# Altium schematic symbol library HW_ADHERENT_SYSCTRL_R1_L2.SCHLIB: 1987 symbols (part 20 of 38)
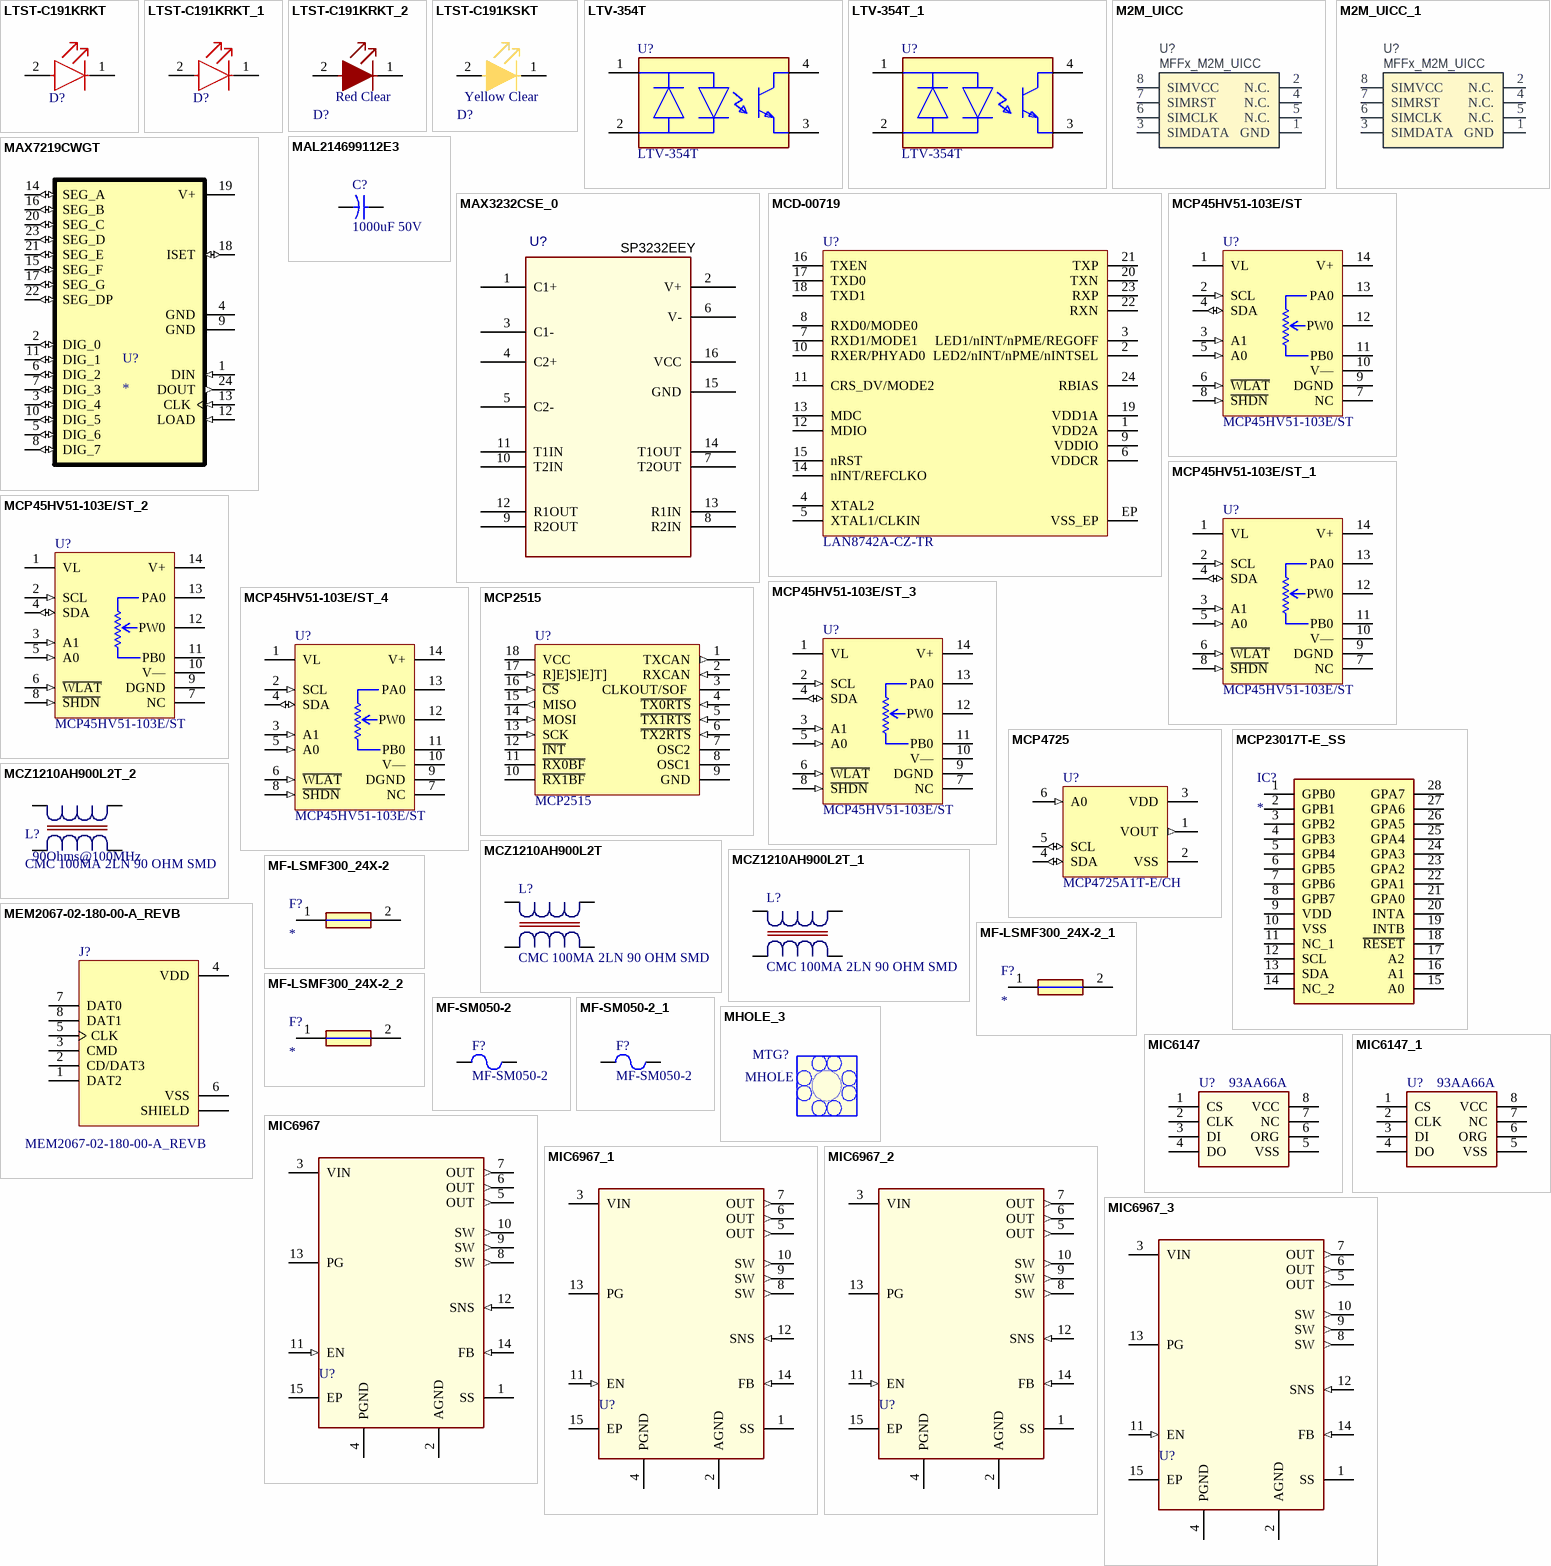
[diagram p81: symbols LTST-C191KRKT to MIC6967_3]

## MIC6147
designator U?, comment 93AA66A
MCHP MEMORY SERIAL EEPROM 4k Microwire 93AA66A-I/SN SOIC-8; Manufacturer: Microchip; Value: 93AA66A; Revision: B; Supplier Part Number: 579-93AA66A-I/SN; Manufacturer Part Number: 93AA66A-I/SN
footprint SOIC-8 150mil (Footprint not found)
pins: 1 CS, 2 CLK, 3 DI, 4 DO, 5 VSS, 6 ORG, 7 NC, 8 VCC

## MIC6147_1
designator U?, comment 93AA66A
MCHP MEMORY SERIAL EEPROM 4k Microwire 93AA66A-I/SN SOIC-8; Manufacturer: Microchip; Value: 93AA66A; Revision: B; Supplier Part Number: 579-93AA66A-I/SN; Manufacturer Part Number: 93AA66A-I/SN
footprint SOIC-8 150mil (Footprint not found)
pins: 1 CS, 2 CLK, 3 DI, 4 DO, 5 VSS, 6 ORG, 7 NC, 8 VCC

## MIC6967
designator U?, comment MIC33153 VFDFN-14  (value not drawn)
IC REG BUCK ADJ 1.2A SYNC 14MLF; Manufacturer: Microchip; Manufacturer Part Number: MIC33153YHJ-TR; ComponentLink1Description: https://datasheet.ciiva.com/2028/mic33153-2028656.pdf?src-supplier=Digi-Key; ComponentLink2URL: C:\ALTIUM_WORK\00001_MCHP-CDB\Datasheets\mic33153.pdf; ComponentLink2Description: Local Datasheet; ComponentLink3URL: C:\ALTIUM_WORK\00001_MCHP-CDB\Library\LibraryRefs\MIC33153 VFDFN-14.SchLib; ComponentLink3Description: Open Symbol; ComponentLink4URL: C:\ALTIUM_WORK\00001_MCHP-CDB\Library\Footprints\VFDFN-14_3X3.5_MIC33153.PcbLib; ComponentLink4Description: Open Footprint; ComponentLink5Description: https://datasheet.ciiva.com/2028/mic33153-2028657.pdf?src-supplier=Digi-Key; ComponentLink6Description: https://datasheet.ciiva.com/26845/getdatasheetpartid-734992-26845015.pdf?src-supplier=Verical; ComponentLink7Description: https://datasheet.ciiva.com/2028/mic33153-2028655.pdf?src-supplier=Digi-Key; Supplier 1: Digi-Key; Supplier Part Number 1: 576-3904-1-ND; RoHS: Yes; Category: Voltage Regulators - Switching; Stock 1: 6735; Pricing 1: 1=1,76000, 25=1,47000, 100=1,33000 (USD); ComponentLink1URL: https://datasheet.ciiva.com/2028/mic33153-2028656.pdf?src-supplier=Digi-Key; ComponentLink5URL: https://datasheet.ciiva.com/2028/mic33153-2028657.pdf?src-supplier=Digi-Key; ComponentLink6URL: https://datasheet.ciiva.com/26845/getdatasheetpartid-734992-26845015.pdf?src-supplier=Verical; ComponentLink7URL: https://datasheet.ciiva.com/2028/mic33153-2028655.pdf?src-supplier=Digi-Key
footprint MLF-14_3x3.5mm (14 Lead MLF Package 3x3.5mm Height 0.95mm)
pins: 1 SS (power), 2 AGND (power), 3 VIN (power), 4 PGND (power), 5 OUT (out), 6 OUT (out), 7 OUT (out), 8 SW (out), 9 SW (out), 10 SW (out), 11 EN (in), 12 SNS (in), 13 PG (oc), 14 FB (in), 15 EP (power)
1 alternate drawing of the same symbol

## MIC6967_1
designator U?, comment MIC33153 VFDFN-14  (value not drawn)
IC REG BUCK ADJ 1.2A SYNC 14MLF; Manufacturer: Microchip; Manufacturer Part Number: MIC33153YHJ-TR; ComponentLink1Description: https://datasheet.ciiva.com/2028/mic33153-2028656.pdf?src-supplier=Digi-Key; ComponentLink2URL: C:\ALTIUM_WORK\00001_MCHP-CDB\Datasheets\mic33153.pdf; ComponentLink2Description: Local Datasheet; ComponentLink3URL: C:\ALTIUM_WORK\00001_MCHP-CDB\Library\LibraryRefs\MIC33153 VFDFN-14.SchLib; ComponentLink3Description: Open Symbol; ComponentLink4URL: C:\ALTIUM_WORK\00001_MCHP-CDB\Library\Footprints\VFDFN-14_3X3.5_MIC33153.PcbLib; ComponentLink4Description: Open Footprint; ComponentLink5Description: https://datasheet.ciiva.com/2028/mic33153-2028657.pdf?src-supplier=Digi-Key; ComponentLink6Description: https://datasheet.ciiva.com/26845/getdatasheetpartid-734992-26845015.pdf?src-supplier=Verical; ComponentLink7Description: https://datasheet.ciiva.com/2028/mic33153-2028655.pdf?src-supplier=Digi-Key; Supplier 1: Digi-Key; Supplier Part Number 1: 576-3904-1-ND; RoHS: Yes; Category: Voltage Regulators - Switching; Stock 1: 6735; Pricing 1: 1=1,76000, 25=1,47000, 100=1,33000 (USD); ComponentLink1URL: https://datasheet.ciiva.com/2028/mic33153-2028656.pdf?src-supplier=Digi-Key; ComponentLink5URL: https://datasheet.ciiva.com/2028/mic33153-2028657.pdf?src-supplier=Digi-Key; ComponentLink6URL: https://datasheet.ciiva.com/26845/getdatasheetpartid-734992-26845015.pdf?src-supplier=Verical; ComponentLink7URL: https://datasheet.ciiva.com/2028/mic33153-2028655.pdf?src-supplier=Digi-Key
footprint MLF-14_3x3.5mm (14 Lead MLF Package 3x3.5mm Height 0.95mm)
pins: 1 SS (power), 2 AGND (power), 3 VIN (power), 4 PGND (power), 5 OUT (out), 6 OUT (out), 7 OUT (out), 8 SW (out), 9 SW (out), 10 SW (out), 11 EN (in), 12 SNS (in), 13 PG (oc), 14 FB (in), 15 EP (power)
1 alternate drawing of the same symbol

## MIC6967_2
designator U?, comment MIC33153 VFDFN-14  (value not drawn)
IC REG BUCK ADJ 1.2A SYNC 14MLF; Manufacturer: Microchip; Manufacturer Part Number: MIC33153YHJ-TR; ComponentLink1Description: https://datasheet.ciiva.com/2028/mic33153-2028656.pdf?src-supplier=Digi-Key; ComponentLink2URL: C:\ALTIUM_WORK\00001_MCHP-CDB\Datasheets\mic33153.pdf; ComponentLink2Description: Local Datasheet; ComponentLink3URL: C:\ALTIUM_WORK\00001_MCHP-CDB\Library\LibraryRefs\MIC33153 VFDFN-14.SchLib; ComponentLink3Description: Open Symbol; ComponentLink4URL: C:\ALTIUM_WORK\00001_MCHP-CDB\Library\Footprints\VFDFN-14_3X3.5_MIC33153.PcbLib; ComponentLink4Description: Open Footprint; ComponentLink5Description: https://datasheet.ciiva.com/2028/mic33153-2028657.pdf?src-supplier=Digi-Key; ComponentLink6Description: https://datasheet.ciiva.com/26845/getdatasheetpartid-734992-26845015.pdf?src-supplier=Verical; ComponentLink7Description: https://datasheet.ciiva.com/2028/mic33153-2028655.pdf?src-supplier=Digi-Key; Supplier 1: Digi-Key; Supplier Part Number 1: 576-3904-1-ND; RoHS: Yes; Category: Voltage Regulators - Switching; Stock 1: 6735; Pricing 1: 1=1,76000, 25=1,47000, 100=1,33000 (USD); ComponentLink1URL: https://datasheet.ciiva.com/2028/mic33153-2028656.pdf?src-supplier=Digi-Key; ComponentLink5URL: https://datasheet.ciiva.com/2028/mic33153-2028657.pdf?src-supplier=Digi-Key; ComponentLink6URL: https://datasheet.ciiva.com/26845/getdatasheetpartid-734992-26845015.pdf?src-supplier=Verical; ComponentLink7URL: https://datasheet.ciiva.com/2028/mic33153-2028655.pdf?src-supplier=Digi-Key
footprint MLF-14_3x3.5mm (14 Lead MLF Package 3x3.5mm Height 0.95mm)
pins: 1 SS (power), 2 AGND (power), 3 VIN (power), 4 PGND (power), 5 OUT (out), 6 OUT (out), 7 OUT (out), 8 SW (out), 9 SW (out), 10 SW (out), 11 EN (in), 12 SNS (in), 13 PG (oc), 14 FB (in), 15 EP (power)
1 alternate drawing of the same symbol

## MIC6967_3
designator U?, comment MIC33153 VFDFN-14  (value not drawn)
IC REG BUCK ADJ 1.2A SYNC 14MLF; Manufacturer: Microchip; Manufacturer Part Number: MIC33153YHJ-TR; ComponentLink1Description: https://datasheet.ciiva.com/2028/mic33153-2028656.pdf?src-supplier=Digi-Key; ComponentLink2URL: C:\ALTIUM_WORK\00001_MCHP-CDB\Datasheets\mic33153.pdf; ComponentLink2Description: Local Datasheet; ComponentLink3URL: C:\ALTIUM_WORK\00001_MCHP-CDB\Library\LibraryRefs\MIC33153 VFDFN-14.SchLib; ComponentLink3Description: Open Symbol; ComponentLink4URL: C:\ALTIUM_WORK\00001_MCHP-CDB\Library\Footprints\VFDFN-14_3X3.5_MIC33153.PcbLib; ComponentLink4Description: Open Footprint; ComponentLink5Description: https://datasheet.ciiva.com/2028/mic33153-2028657.pdf?src-supplier=Digi-Key; ComponentLink6Description: https://datasheet.ciiva.com/26845/getdatasheetpartid-734992-26845015.pdf?src-supplier=Verical; ComponentLink7Description: https://datasheet.ciiva.com/2028/mic33153-2028655.pdf?src-supplier=Digi-Key; Supplier 1: Digi-Key; Supplier Part Number 1: 576-3904-1-ND; RoHS: Yes; Category: Voltage Regulators - Switching; Stock 1: 6735; Pricing 1: 1=1,76000, 25=1,47000, 100=1,33000 (USD); ComponentLink1URL: https://datasheet.ciiva.com/2028/mic33153-2028656.pdf?src-supplier=Digi-Key; ComponentLink5URL: https://datasheet.ciiva.com/2028/mic33153-2028657.pdf?src-supplier=Digi-Key; ComponentLink6URL: https://datasheet.ciiva.com/26845/getdatasheetpartid-734992-26845015.pdf?src-supplier=Verical; ComponentLink7URL: https://datasheet.ciiva.com/2028/mic33153-2028655.pdf?src-supplier=Digi-Key
footprint MLF-14_3x3.5mm (14 Lead MLF Package 3x3.5mm Height 0.95mm)
pins: 1 SS (power), 2 AGND (power), 3 VIN (power), 4 PGND (power), 5 OUT (out), 6 OUT (out), 7 OUT (out), 8 SW (out), 9 SW (out), 10 SW (out), 11 EN (in), 12 SNS (in), 13 PG (oc), 14 FB (in), 15 EP (power)
1 alternate drawing of the same symbol

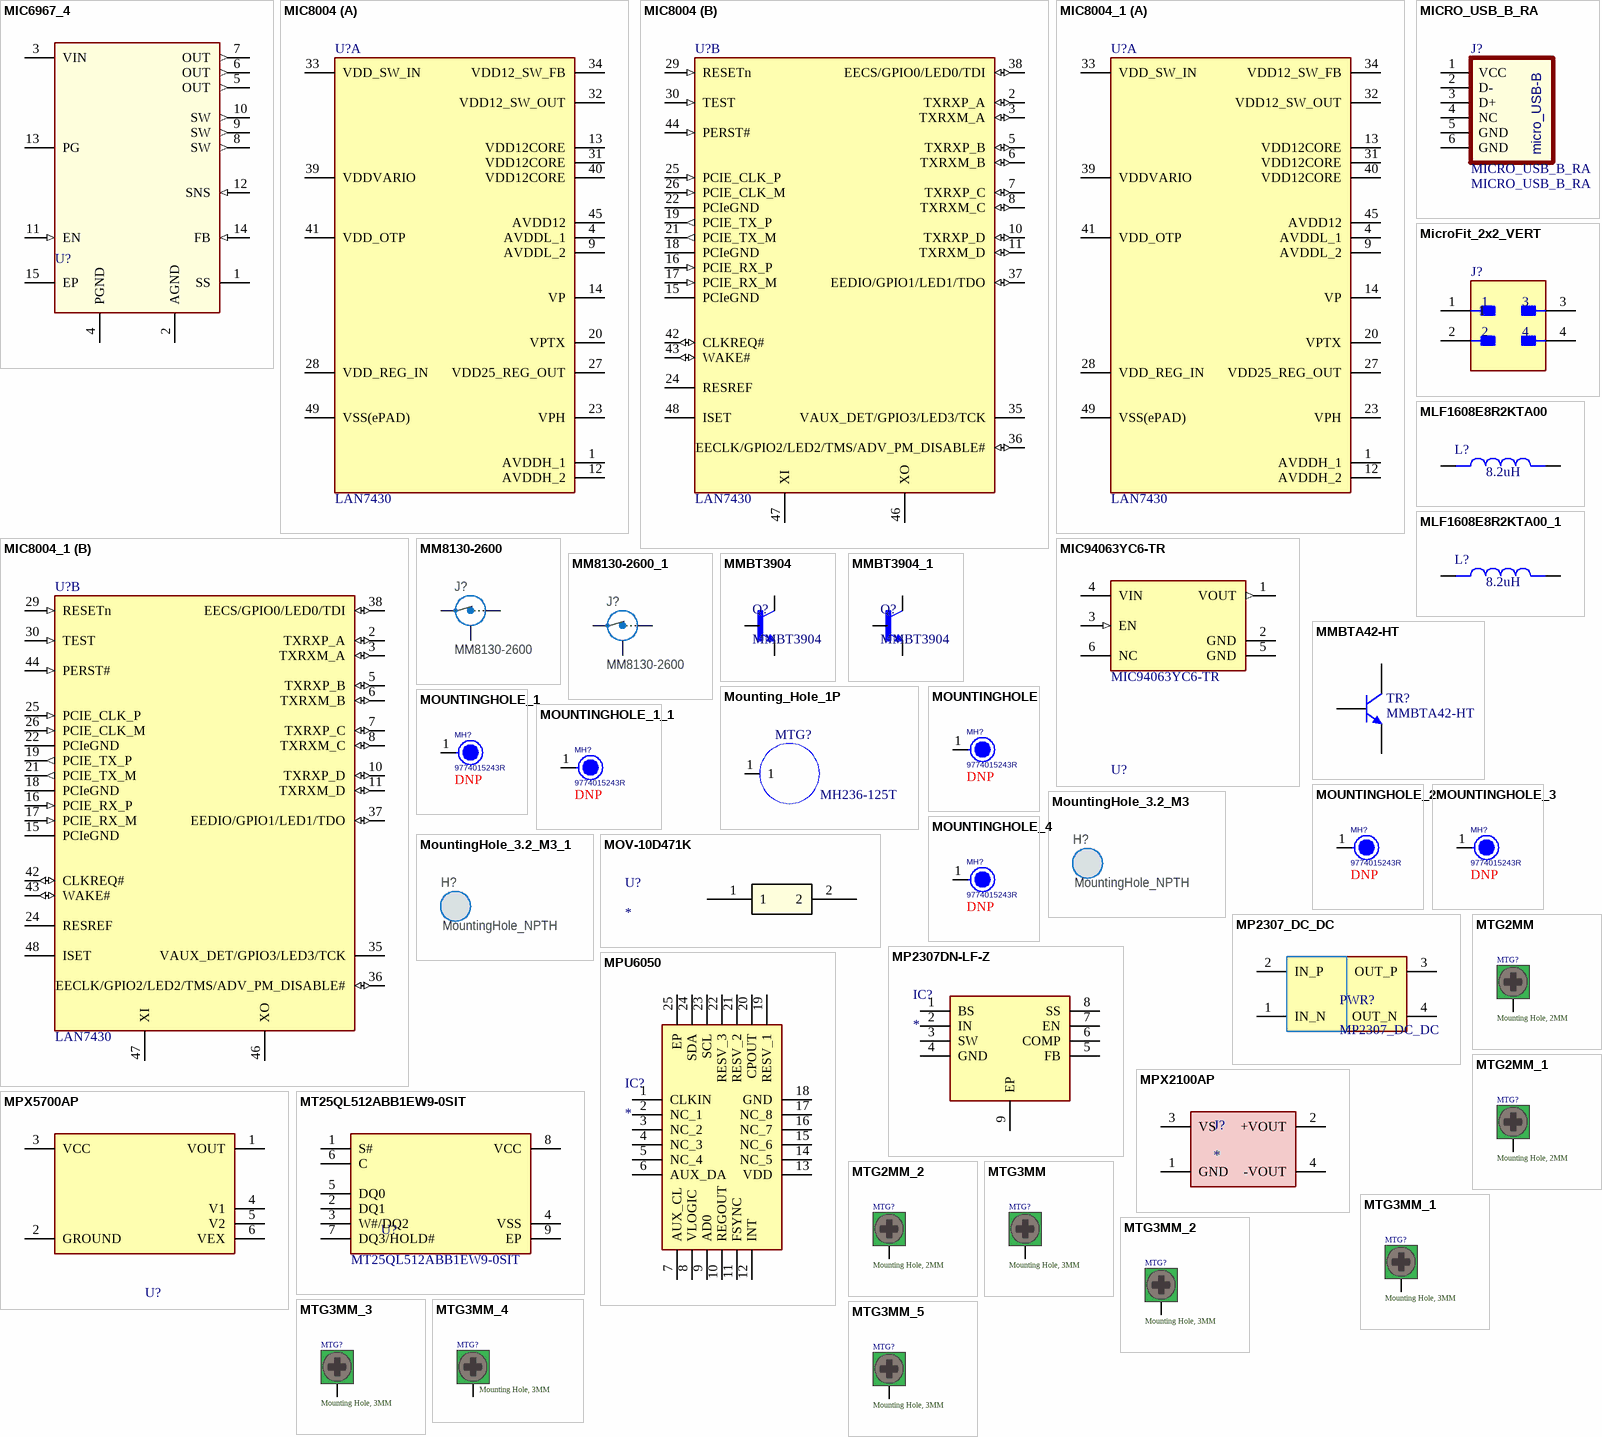
[diagram p35: symbols MIC6967_4 to MTG3MM_5]

## MIC6967_4
designator U?, comment MIC33153 VFDFN-14  (value not drawn)
IC REG BUCK ADJ 1.2A SYNC 14MLF; Manufacturer: Microchip; Manufacturer Part Number: MIC33153YHJ-TR; ComponentLink1Description: https://datasheet.ciiva.com/2028/mic33153-2028656.pdf?src-supplier=Digi-Key; ComponentLink2URL: C:\ALTIUM_WORK\00001_MCHP-CDB\Datasheets\mic33153.pdf; ComponentLink2Description: Local Datasheet; ComponentLink3URL: C:\ALTIUM_WORK\00001_MCHP-CDB\Library\LibraryRefs\MIC33153 VFDFN-14.SchLib; ComponentLink3Description: Open Symbol; ComponentLink4URL: C:\ALTIUM_WORK\00001_MCHP-CDB\Library\Footprints\VFDFN-14_3X3.5_MIC33153.PcbLib; ComponentLink4Description: Open Footprint; ComponentLink5Description: https://datasheet.ciiva.com/2028/mic33153-2028657.pdf?src-supplier=Digi-Key; ComponentLink6Description: https://datasheet.ciiva.com/26845/getdatasheetpartid-734992-26845015.pdf?src-supplier=Verical; ComponentLink7Description: https://datasheet.ciiva.com/2028/mic33153-2028655.pdf?src-supplier=Digi-Key; Supplier 1: Digi-Key; Supplier Part Number 1: 576-3904-1-ND; RoHS: Yes; Category: Voltage Regulators - Switching; Stock 1: 6735; Pricing 1: 1=1,76000, 25=1,47000, 100=1,33000 (USD); ComponentLink1URL: https://datasheet.ciiva.com/2028/mic33153-2028656.pdf?src-supplier=Digi-Key; ComponentLink5URL: https://datasheet.ciiva.com/2028/mic33153-2028657.pdf?src-supplier=Digi-Key; ComponentLink6URL: https://datasheet.ciiva.com/26845/getdatasheetpartid-734992-26845015.pdf?src-supplier=Verical; ComponentLink7URL: https://datasheet.ciiva.com/2028/mic33153-2028655.pdf?src-supplier=Digi-Key
footprint MLF-14_3x3.5mm (14 Lead MLF Package 3x3.5mm Height 0.95mm)
pins: 1 SS (power), 2 AGND (power), 3 VIN (power), 4 PGND (power), 5 OUT (out), 6 OUT (out), 7 OUT (out), 8 SW (out), 9 SW (out), 10 SW (out), 11 EN (in), 12 SNS (in), 13 PG (oc), 14 FB (in), 15 EP (power)
1 alternate drawing of the same symbol

## MIC8004
designator U?, comment value LAN7430  (hidden comment: LAN7430 SQFN-48)
IC ETHERNET CNTRLR GPIO 48SQFN; Manufacturer: Microchip Technology; Manufacturer Part Number: LAN7430-I/Y9X; Revision: A; Supplier Part Number: LAN7430-I/Y9X-ND
footprint QFN-48_7x7_EP5.3x5.3
part A pins: 1 AVDDH_1 (power), 4 AVDDL_1 (power), 9 AVDDL_2 (power), 12 AVDDH_2 (power), 13 VDD12CORE (power), 14 VP (power), 20 VPTX (power), 23 VPH (power), 27 VDD25_REG_OUT (power), 28 VDD_REG_IN (power), 31 VDD12CORE (power), 32 VDD12_SW_OUT (power), 33 VDD_SW_IN (power), 34 VDD12_SW_FB (power), 39 VDDVARIO (power), 40 VDD12CORE (power), 41 VDD_OTP (power), 45 AVDD12 (power), 49 VSS(ePAD)
part B pins: 2 TXRXP_A (io), 3 TXRXM_A (io), 5 TXRXP_B (io), 6 TXRXM_B (io), 7 TXRXP_C (io), 8 TXRXM_C (io), 10 TXRXP_D (io), 11 TXRXM_D (io), 15 PCIeGND (power), 16 PCIE_RX_P (in), 17 PCIE_RX_M (in), 18 PCIeGND (power), 19 PCIE_TX_P (out), 21 PCIE_TX_M (out), 22 PCIeGND (power), 24 RESREF, 25 PCIE_CLK_P (in), 26 PCIE_CLK_M (in), 29 RESETn (in), 30 TEST (in), 35 VAUX_DET/GPIO3/LED3/TCK, 36 EECLK/GPIO2/LED2/TMS/ADV_PM_DISABLE# (io), 37 EEDIO/GPIO1/LED1/TDO (io), 38 EECS/GPIO0/LED0/TDI (io), 42 CLKREQ# (io), 43 WAKE# (io), 44 PERST# (in), 46 XO, 47 XI, 48 ISET

## MIC8004_1
designator U?, comment value LAN7430  (hidden comment: LAN7430 SQFN-48)
IC ETHERNET CNTRLR GPIO 48SQFN; Manufacturer: Microchip Technology; Manufacturer Part Number: LAN7430-I/Y9X; Revision: A; Supplier Part Number: LAN7430-I/Y9X-ND
footprint QFN-48_7x7_EP5.3x5.3
part A pins: 1 AVDDH_1 (power), 4 AVDDL_1 (power), 9 AVDDL_2 (power), 12 AVDDH_2 (power), 13 VDD12CORE (power), 14 VP (power), 20 VPTX (power), 23 VPH (power), 27 VDD25_REG_OUT (power), 28 VDD_REG_IN (power), 31 VDD12CORE (power), 32 VDD12_SW_OUT (power), 33 VDD_SW_IN (power), 34 VDD12_SW_FB (power), 39 VDDVARIO (power), 40 VDD12CORE (power), 41 VDD_OTP (power), 45 AVDD12 (power), 49 VSS(ePAD)
part B pins: 2 TXRXP_A (io), 3 TXRXM_A (io), 5 TXRXP_B (io), 6 TXRXM_B (io), 7 TXRXP_C (io), 8 TXRXM_C (io), 10 TXRXP_D (io), 11 TXRXM_D (io), 15 PCIeGND (power), 16 PCIE_RX_P (in), 17 PCIE_RX_M (in), 18 PCIeGND (power), 19 PCIE_TX_P (out), 21 PCIE_TX_M (out), 22 PCIeGND (power), 24 RESREF, 25 PCIE_CLK_P (in), 26 PCIE_CLK_M (in), 29 RESETn (in), 30 TEST (in), 35 VAUX_DET/GPIO3/LED3/TCK, 36 EECLK/GPIO2/LED2/TMS/ADV_PM_DISABLE# (io), 37 EEDIO/GPIO1/LED1/TDO (io), 38 EECS/GPIO0/LED0/TDI (io), 42 CLKREQ# (io), 43 WAKE# (io), 44 PERST# (in), 46 XO, 47 XI, 48 ISET

## MIC94063YC6-TR
designator U?, comment Manufacturer Part Number: MIC94063YC6-TR  (hidden comment: IC PWR SWITCH P-CHAN 1:1 SC70-6)
Power Switch/Driver 1:1 P-Channel 2A SC-70-6; Order Code: DIGI: 576-1329-2-ND
footprint Microchip_SC70-6LD-PL-1_IPC_A
footprint Microchip_SC70-6LD-PL-1_IPC_B
footprint Microchip_SC70-6LD-PL-1_IPC_C
footprint Microchip_SC70-6LD-PL-1_MFG
pins: 1 VOUT (out), 2 GND (power), 3 EN (in), 4 VIN (power), 5 GND (power), 6 NC

## MICRO_USB_B_RA
designator J?
CONN MICRO B USB 2.0 RECEPTACLE 5POS SMD RA; Manufacturer: AMPHENOL; Manufacturer Part Name: 10118194-0001LF; Code: 3050016; Family: CONN; Supplier: Digikey; Supplier No: 609-4618-2-ND; Value: MICRO_USB_B_RA
footprint MICRO_USB_B
pins: 1 VCC, 2 D-, 3 D+, 4 NC, 5 GND, 6 GND
text: micro_USB-B

## MicroFit_2x2_VERT
designator J?, comment 0430450427  (value not drawn)
Connector Header Through Hole 4 position 0.118" (3.00mm); Manufacturer: Molex; Manufacturer Part Number: 0430450427
footprint MicroFit_2x2_VERT
pins: 1, 2, 3, 4

## MLF1608E8R2KTA00
designator L?, comment value 8.2uH  (hidden comment: FIXED IND 8.2UH 10MA 1.5 OHM SMD)
Inductor RF Chip Shielded Multi-Layer 8.2uH 10% 4MHz 35Q-Factor Ferrite 10mA 1.5Ohm DCR 0603 T/R; Manufacturer Part Number: MLF1608E8R2KTA00; Order Code: Digi: 445-1024-2-ND
footprint INDC1608X95N
pins: 1, 2

## MLF1608E8R2KTA00_1
designator L?, comment value 8.2uH  (hidden comment: FIXED IND 8.2UH 10MA 1.5 OHM SMD)
Inductor RF Chip Shielded Multi-Layer 8.2uH 10% 4MHz 35Q-Factor Ferrite 10mA 1.5Ohm DCR 0603 T/R; Manufacturer Part Number: MLF1608E8R2KTA00; Order Code: Digi: 445-1024-2-ND
footprint INDC1608X95N
pins: 1, 2

## MM8130-2600
designator J?
Coaxial Connector with Switch; Manufacturer: Murata; Part number IPS: 00000009955; Part number Norautron: 26030338; Part number NEMS: 100500400; Note: N.A.; Artikkelnr Noca: 55029011; Pad Count: 3; Component Status: Active; Part Number: MM8130-2600; Manufacturer Part Number: MM8130-2600; LatestRevisionDate: 2014-04-24; Published: 2014-04-24; Value: MM8130-2600; Footprint Doc: COAXIAL-SWF; ComponentLink1URL: N.A.; ComponentLink1Description: Datasheet; ComponentLink2URL: N.A.; ComponentLink2Description: Supplier link; HelpURL: http://www.murata.com/products/catalog/pdf/o33e.pdf; Supplier 1: Digi-Key; Supplier Part Number 1: 490-4981-1-ND; Supplier 2: Mouser; Supplier Part Number 2: 81-MM8130-2600RA2; Component Class: Connectors; PartId: 100500400; Author: rsk; System: Connector
footprint COAXIAL-SWF
pins: 1 IN, 2 Shield, 3 OUT

## MM8130-2600_1
designator J?, comment MM8130-2600
Coaxial Connector with Switch; Manufacturer: Murata; Part number IPS: 00000009955; Part number Norautron: 26030338; Part number NEMS: 100500400; Note: N.A.; Artikkelnr Noca: 55029011; Pad Count: 3; Component Status: Active; Part Number: MM8130-2600; Manufacturer Part Number: MM8130-2600; LatestRevisionDate: 2014-04-24; Published: 2014-04-24; Value: MM8130-2600; Footprint Doc: COAXIAL-SWF; ComponentLink1URL: N.A.; ComponentLink1Description: Datasheet; ComponentLink2URL: N.A.; ComponentLink2Description: Supplier link; HelpURL: http://www.murata.com/products/catalog/pdf/o33e.pdf; Supplier 1: Digi-Key; Supplier Part Number 1: 490-4981-1-ND; Supplier 2: Mouser; Supplier Part Number 2: 81-MM8130-2600RA2; Component Class: Connectors; PartId: 100500400; Author: rsk; System: Connector
footprint COAXIAL-SWF
pins: 1 IN, 2 Shield, 3 OUT

## MMBT3904
designator Q?
BJT, SOT-23, 40V, 200mA, NPN, 0.35W, 150Â°C; MF: Diotec Semiconductor; SnapEDA_Link: https://www.snapeda.com/parts/MMBT3904/Diotec/view-part/?ref=snap; Package: SOT-23 Diotec; Value: *; MP: MMBT3904; Check_prices: https://www.snapeda.com/parts/MMBT3904/Diotec/view-part/?ref=eda
footprint TRANS_MMBT3904
pins: 1 B, 2 E, 3 C

## MMBT3904_1
designator Q?, comment MMBT3904
BJT, SOT-23, 40V, 200mA, NPN, 0.35W, 150Â°C; MF: Diotec Semiconductor; SnapEDA_Link: https://www.snapeda.com/parts/MMBT3904/Diotec/view-part/?ref=snap; Package: SOT-23 Diotec; Value: *; MP: MMBT3904; Check_prices: https://www.snapeda.com/parts/MMBT3904/Diotec/view-part/?ref=eda
footprint TRANS_MMBT3904
pins: 1 B, 2 E, 3 C

## MMBTA42-HT
designator TR?
TRANS MMBTA42-HT BIPOLAR TRANSISTOR NPN SOT23; Manufacturer: HOTTECH; Code: 3040094; Family: TRANS; Manufacturer Part Name: MMBTA42-HT; Package Reference: SOT23-3; Supplier: Ozdisan; Supplier No: MMBTA42-HT; Value: MMBTA42-HT
footprint SOT23-3 (SOT23, 3-Leads, Body 2.9x1.3mm, Pitch 0.95mm, Lead Span 2.5mm, IPC Medium Density)
pins: 1 B, 2 E, 3 C

## Mounting_Hole_1P
designator MTG?, comment MH236-125T
Mounting hole DRILL 125 CIRC PAD 236 PLATED THRU HOLE, NO PART TO ORDER; CLASS: IC; PCB Footprint: GNDPOINT256; CAD_APPROVED: Yes; MFG_PN01: none; AGILE_PN: 280-77051; HEIGHT: 0.05 MM; ROHS: Yes; MFG_NAME01: none
footprint GNDPOINT256
pins: 1

## MOUNTINGHOLE
designator MH?, comment 9774015243R
RND STANDOFF M2X0.4 STEEL 1.5MM; Manufacturer: Würth Elektronik; Value: 9774015243R; Manufacturer Part Number: 9774015243R; Supplier Part Number: 732-7069-1-ND; DNP: DNP
footprint MH_CM4
pins: 1

## MOUNTINGHOLE_1
designator MH?, comment 9774015243R
RND STANDOFF M2X0.4 STEEL 1.5MM; Manufacturer: Würth Elektronik; Value: 9774015243R; Manufacturer Part Number: 9774015243R; Supplier Part Number: 732-7069-1-ND; DNP: DNP
footprint MH_CM4
pins: 1

## MOUNTINGHOLE_1_1
designator MH?, comment 9774015243R
RND STANDOFF M2X0.4 STEEL 1.5MM; Manufacturer: Würth Elektronik; Value: 9774015243R; Manufacturer Part Number: 9774015243R; Supplier Part Number: 732-7069-1-ND; DNP: DNP
footprint MH_CM4
pins: 1

## MOUNTINGHOLE_2
designator MH?, comment 9774015243R
RND STANDOFF M2X0.4 STEEL 1.5MM; Manufacturer: Würth Elektronik; DNP: DNP; Value: 9774015243R; Manufacturer Part Number: 9774015243R; Supplier Part Number: 732-7069-1-ND
footprint MH_CM4
pins: 1

## MOUNTINGHOLE_3
designator MH?, comment 9774015243R
RND STANDOFF M2X0.4 STEEL 1.5MM; Manufacturer: Würth Elektronik; Value: 9774015243R; Manufacturer Part Number: 9774015243R; Supplier Part Number: 732-7069-1-ND; DNP: DNP
footprint MH_CM4
pins: 1

## MountingHole_3.2_M3
designator H?, comment MountingHole_NPTH  (no BOM)
Mounting hole, 3.2mm, M3, no annular; Part Number: MountingHole_3.2_M3; Manufacturer: N.A.; Part number NEMS: 101200008; Value: MountingHole_3.2_M3; Pad Count: 0; Component Status: Active; Rule: UNIONINDEX=0|RULEKIND=Clearance|NETSCOPE=DifferentNets|LAYERKIND=SameLayer|NAME=Schematic Clearance Constraint|GAP=10mil|GENERICCLEARANCE=10mil|IGNOREPADTOPADCLEARANCEINFOOTPRINT=TRUE|OBJECTCLEARANCES=ClearanceObj_Arc-ClearanceObj_Hole:0;ClearanceObj_Track-ClearanceObj_Hole:0;ClearanceObj_SMDPad-ClearanceObj_Hole:0;ClearanceObj_THPad-ClearanceObj_Hole:0;ClearanceObj_Via-ClearanceObj_Hole:0;ClearanceObj_Fill-ClearanceObj_Hole:0;ClearanceObj_Poly-ClearanceObj_Hole:0;ClearanceObj_Region-ClearanceObj_Hole:0;ClearanceObj_Text-ClearanceObj_Hole:0|UNIT=Metric; Rule: UNIONINDEX=0|RULEKIND=RoutingVias|NETSCOPE=AnyNet|LAYERKIND=SameLayer|NAME=Schematic Routing Via Style|HOLEWIDTH=0mil|WIDTH=0mil|VIASTYLE=Through Hole|MINHOLEWIDTH=0mil|MINWIDTH=0mil|MAXHOLEWIDTH=78.7402mil|MAXWIDTH=78.7402mil|UNIT=Metric; Manufacturer Part Number: N.A.; Footprint Doc: MountingHole_3.2_M3; LatestRevisionDate: 2022-12-16; Published: 2022-12-16; Note: N.A.; Artikkelnr Noca: N.A.; Part number IPS: N.A.; ComponentLink1URL: N.A.; ComponentLink1Description: Datasheet; ComponentLink2URL: N.A.; ComponentLink2Description: Supplier link; HelpURL: N.A.; Supplier 1: N.A.; Supplier Part Number 1: N.A.; Supplier 2: N.A.; Supplier Part Number 2: N.A.; Author: kod1; Component Class: Mechanicals; PartId: 101200008; Part number Norautron: N.A.
footprint MountingHole_3.2_M3

## MountingHole_3.2_M3_1
designator H?, comment MountingHole_NPTH  (no BOM)
Mounting hole, 3.2mm, M3, no annular; Part Number: MountingHole_3.2_M3; Manufacturer: N.A.; Part number NEMS: 101200008; Value: MountingHole_3.2_M3; Pad Count: 0; Component Status: Active; Rule: UNIONINDEX=0|RULEKIND=Clearance|NETSCOPE=DifferentNets|LAYERKIND=SameLayer|NAME=Schematic Clearance Constraint|GAP=10mil|GENERICCLEARANCE=10mil|IGNOREPADTOPADCLEARANCEINFOOTPRINT=TRUE|OBJECTCLEARANCES=ClearanceObj_Arc-ClearanceObj_Hole:0;ClearanceObj_Track-ClearanceObj_Hole:0;ClearanceObj_SMDPad-ClearanceObj_Hole:0;ClearanceObj_THPad-ClearanceObj_Hole:0;ClearanceObj_Via-ClearanceObj_Hole:0;ClearanceObj_Fill-ClearanceObj_Hole:0;ClearanceObj_Poly-ClearanceObj_Hole:0;ClearanceObj_Region-ClearanceObj_Hole:0;ClearanceObj_Text-ClearanceObj_Hole:0|UNIT=Metric; Rule: UNIONINDEX=0|RULEKIND=RoutingVias|NETSCOPE=AnyNet|LAYERKIND=SameLayer|NAME=Schematic Routing Via Style|HOLEWIDTH=0mil|WIDTH=0mil|VIASTYLE=Through Hole|MINHOLEWIDTH=0mil|MINWIDTH=0mil|MAXHOLEWIDTH=78.7402mil|MAXWIDTH=78.7402mil|UNIT=Metric; Manufacturer Part Number: N.A.; Footprint Doc: MountingHole_3.2_M3; LatestRevisionDate: 2022-12-16; Published: 2022-12-16; Note: N.A.; Artikkelnr Noca: N.A.; Part number IPS: N.A.; ComponentLink1URL: N.A.; ComponentLink1Description: Datasheet; ComponentLink2URL: N.A.; ComponentLink2Description: Supplier link; HelpURL: N.A.; Supplier 1: N.A.; Supplier Part Number 1: N.A.; Supplier 2: N.A.; Supplier Part Number 2: N.A.; Author: kod1; Component Class: Mechanicals; PartId: 101200008; Part number Norautron: N.A.
footprint MountingHole_3.2_M3

## MOUNTINGHOLE_4
designator MH?, comment 9774015243R
RND STANDOFF M2X0.4 STEEL 1.5MM; Manufacturer: Würth Elektronik; Value: 9774015243R; Manufacturer Part Number: 9774015243R; Supplier Part Number: 732-7069-1-ND; DNP: DNP
footprint MH_CM4
pins: 1

## MOV-10D471K
designator U?
No Description Available; Mfr_Name: Bourns Electronics; RefDes: RefDes; Type: Type
footprint VAR_MOV-10D471K_BRN
pins: 1, 2

## MP2307_DC_DC
designator PWR?
footprint MP2307_DC_DC
pins: 1 IN_N, 2 IN_P, 3 OUT_P, 4 OUT_N

## MP2307DN-LF-Z
designator IC?
Integrated Circuit; Manufacturer_Name: Monolithic Power Systems (MPS); Manufacturer_Part_Number: MP2307DN-LF-Z; Datasheet Link: http://www.mouser.com/ds/2/277/MP2307_r1.9-371737.pdf; Height: 1.7mm; Mouser Part Number: 946-MP2307DNLFZ; Mouser Price/Stock: https://www.mouser.co.uk/ProductDetail/Monolithic-Power-Systems-MPS/MP2307DN-LF-Z?qs=rC7bBWoQAAmsFilkwcof5g%3D%3D
footprint SOIC127P600X170-9N
pins: 1 BS, 2 IN, 3 SW, 4 GND, 5 FB, 6 COMP, 7 EN, 8 SS, 9 EP

## MPU6050
designator IC?
Integrated Circuit; Manufacturer_Name: TDK; Manufacturer_Part_Number: MPU6050; Datasheet Link: https://invensense.tdk.com/wp-content/uploads/2015/02/MPU-6000-Datasheet1.pdf; Height: 0.95mm
footprint MPU6050
pins: 1 CLKIN, 2 NC_1, 3 NC_2, 4 NC_3, 5 NC_4, 6 AUX_DA, 7 AUX_CL, 8 VLOGIC, 9 AD0, 10 REGOUT, 11 FSYNC, 12 INT, 13 VDD, 14 NC_5, 15 NC_6, 16 NC_7, 17 NC_8, 18 GND, 19 RESV_1, 20 CPOUT, 21 RESV_2, 22 RESV_3, 23 SCL, 24 SDA, 25 EP

## MPX2100AP
designator J?
MF: {'manufacturer': u'JST Sales America Inc.'}; MP: B4B-XH-A; Package: None; Price: None; Value: *; Availability: Unavailable
footprint MPX2100AP
pins: 1 GND, 2 +VOUT, 3 VS, 4 -VOUT

## MPX5700AP
designator U?  (value not drawn)
footprint Freescale_Semiconductor_SOT1756-1_MFG
pins: 1 VOUT (power), 2 GROUND (power), 3 VCC (power), 4 V1 (power), 5 V2 (power), 6 VEX (power)

## MT25QL512ABB1EW9-0SIT
designator U?, comment Manufacturer Part Number: MT25QL512ABB1EW9-0SIT  (hidden comment: IC FLASH 512MBIT SPI 8WPDFN)
FLASH - NOR Memory IC 512Mbit SPI - Quad I/O 133 MHz 8-WPDFN (8x6) (MLP8); Order Code: DIGI: 557-1786-ND
footprint SON127P800X600X80-9N-D-NO_VIAS
pins: 1 S#, 2 DQ1, 3 W#/DQ2, 4 VSS, 5 DQ0, 6 C, 7 DQ3/HOLD#, 8 VCC, 9 EP

## MTG2MM
designator MTG?, comment Mounting Hole, 2MM  (no BOM)
footprint MTG-PTH-2MM
pins: 0

## MTG2MM_1
designator MTG?, comment Mounting Hole, 2MM  (no BOM)
footprint MTG-PTH-2MM
pins: 0

## MTG2MM_2
designator MTG?, comment Mounting Hole, 2MM  (no BOM)
footprint MTG-PTH-2MM
pins: 0

## MTG3MM
designator MTG?, comment Mounting Hole, 3MM  (no BOM)
footprint MTG-PTH-3MM
pins: 0

## MTG3MM_1
designator MTG?, comment Mounting Hole, 3MM  (no BOM)
footprint MTG-PTH-3MM
pins: 0

## MTG3MM_2
designator MTG?, comment Mounting Hole, 3MM  (no BOM)
footprint MTG-PTH-3MM
pins: 0

## MTG3MM_3
designator MTG?, comment Mounting Hole, 3MM  (no BOM)
footprint MTG-PTH-3MM
pins: 0

## MTG3MM_4
designator MTG?, comment Mounting Hole, 3MM  (no BOM)
footprint M3 Mounting Hole
pins: 0

## MTG3MM_5
designator MTG?, comment Mounting Hole, 3MM  (no BOM)
footprint MTG-PTH-3MM
pins: 0

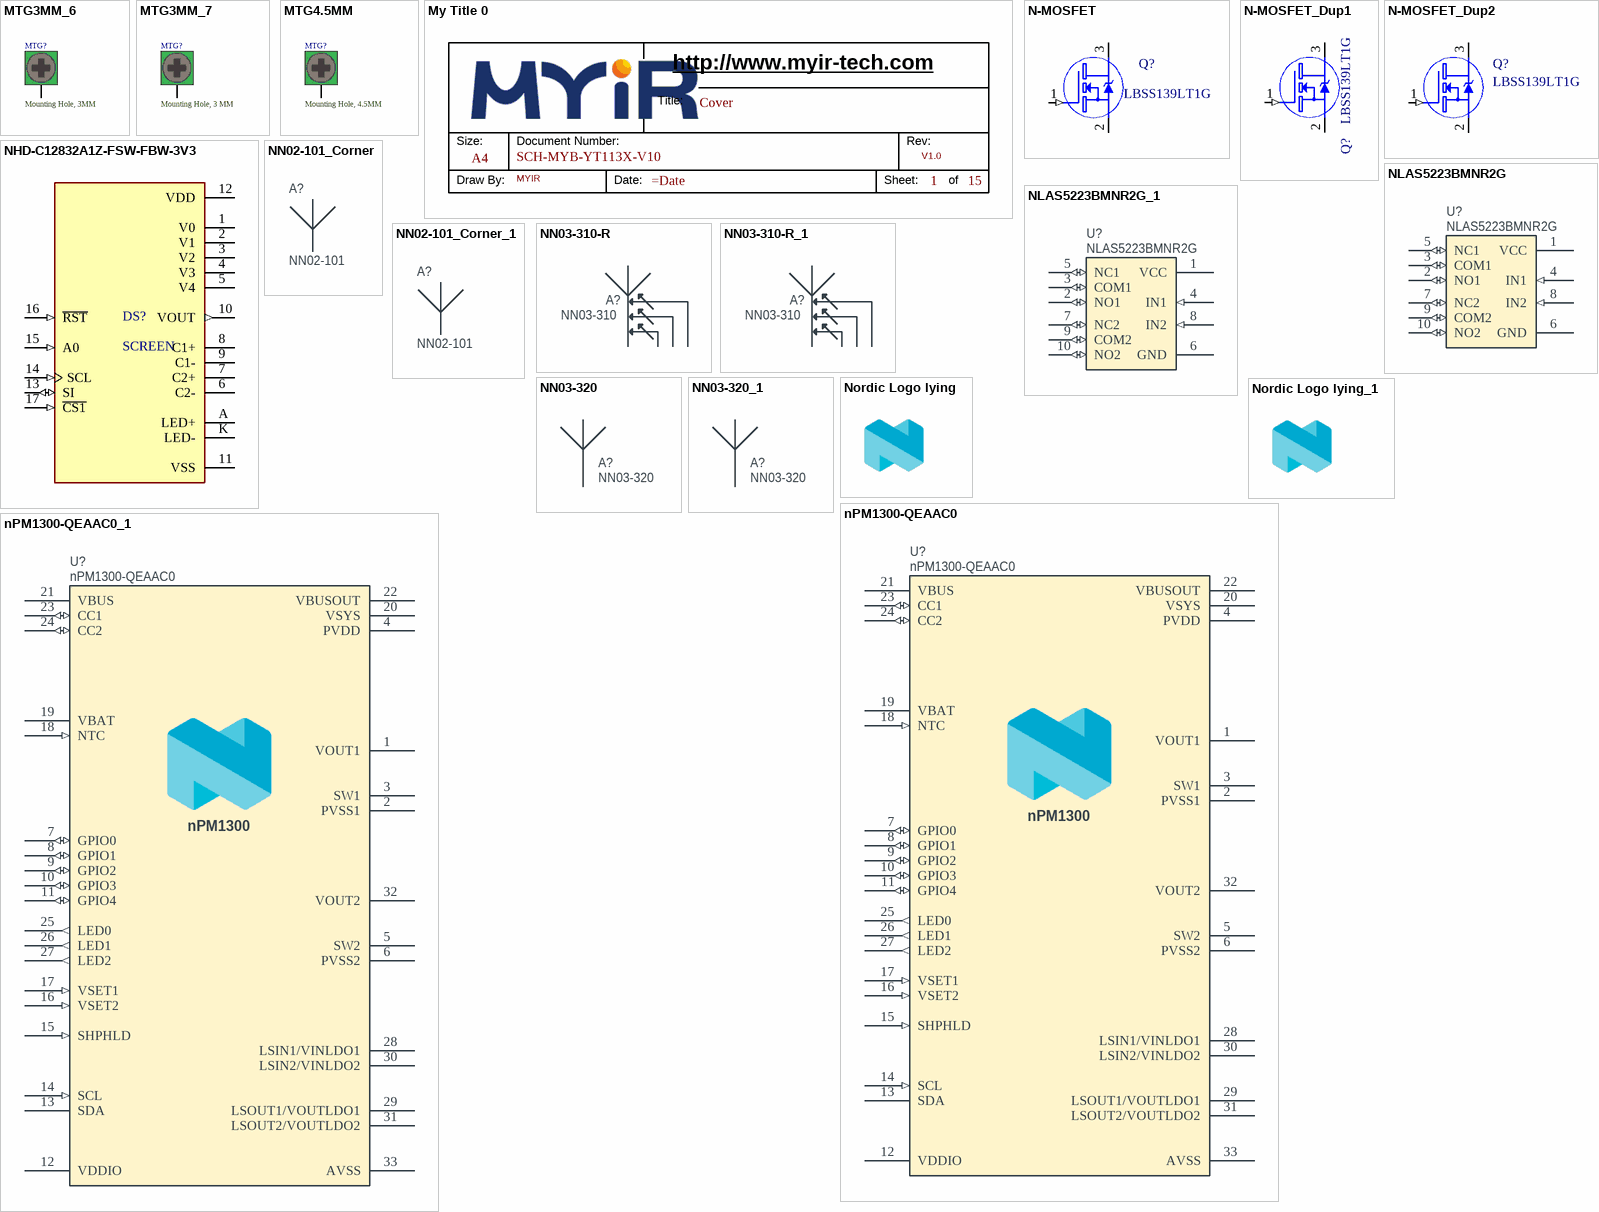
[diagram p36: symbols MTG3MM_6 to nPM1300-QEAAC0_1]

## MTG3MM_6
designator MTG?, comment Mounting Hole, 3MM  (no BOM)
footprint MTG-PTH-3MM
pins: 0

## MTG3MM_7
designator MTG?, comment Mounting Hole, 3 MM  (no BOM)
footprint MTG-PTH-1_8MM
pins: 0

## MTG4.5MM
designator MTG?, comment Mounting Hole, 4.5MM  (no BOM)
footprint MTG-PTH-4.5MM
pins: 0

## My Title 0
designator *?  Page Count: 15  Page Number: 1  Page Size: A4  Title: SCH-MYB-YT113X-V10  RevCode: V1.0  Doc: Cover  Drawing: MYIR  (hidden comment: My Title 0)  (graphical)
Company: ÓÅÁú¿Æ¼¼; Page Create Date: May 29, 2006; WebSite: http://www.ucdragon.com; Page Modify Date: =Date
text: http://www.myir-tech.com; Title:; Size:; Document Number:; Rev:; Draw By:; Date:; Sheet:; of

## N-MOSFET
designator Q?, comment LBSS139LT1G
Mosfet,N-Channel,50V,0.2A,SMD,SOT-23,LRC; Myir P/N: 20703.00012; Part Type: Mosfet; Manufacturer: LRC; Manufacturer P/N: LBSS139LT1G; Reserve Value: LBSS139LT1G; Datasheet: LBSS139LT1G.pdf; PCB Footprint: SOT-23
footprint SOT23T02
footprint SOT-23
pins: 1 G (in), 2 S, 3 D (oc)

## N-MOSFET_Dup1
designator Q?, comment LBSS139LT1G
Mosfet,N-Channel,50V,0.2A,SMD,SOT-23,LRC; Myir P/N: 20703.00012; PCB Footprint: SOT-23; Datasheet: LBSS139LT1G.pdf; Reserve Value: LBSS139LT1G; Manufacturer P/N: LBSS139LT1G; Manufacturer: LRC; Part Type: Mosfet
footprint SOT23T02
footprint SOT-23
pins: 1 G (in), 2 S, 3 D (oc)

## N-MOSFET_Dup2
designator Q?, comment LBSS139LT1G
Mosfet,N-Channel,50V,0.2A,SMD,SOT-23,LRC; Myir P/N: 20703.00012; Part Type: Mosfet; Manufacturer: LRC; Manufacturer P/N: LBSS139LT1G; Reserve Value: LBSS139LT1G; Datasheet: LBSS139LT1G.pdf; PCB Footprint: SOT-23
footprint SOT23T02
footprint SOT-23
pins: 1 G (in), 2 S, 3 D (oc)

## NHD-C12832A1Z-FSW-FBW-3V3
designator DS?, comment SCREEN
Chip on Glass- Graphic;128x32 Pixels;41.4x24.3x4;FSTN (+);Transflect;4-Bit / SPI | Newhaven Display International NHD-C12832A1Z-FSW-FBW-3V3; SnapEDA_Link: https://www.snapeda.com/parts/NHD-C12832A1Z-FSW-FBW-3V3/Newhaven+Display/view-part/?ref=snap; Package: None; Value: *; MF: Newhaven; MP: NHD-C12832A1Z-FSW-FBW-3V3; Check_prices: https://www.snapeda.com/parts/NHD-C12832A1Z-FSW-FBW-3V3/Newhaven+Display/view-part/?ref=eda
footprint LCD_NHD-C12832A1Z-FSW-FBW-3V3
pins: 1 V0 (power), 2 V1 (power), 3 V2 (power), 4 V3 (power), 5 V4 (power), 6 C2-, 7 C2+, 8 C1+, 9 C1-, 10 VOUT (out), 11 VSS (power), 12 VDD (power), 13 SI (io), 14 SCL (in), 15 A0 (in), 16 ~{RST} (in), 17 ~{CS1} (in), A LED+, K LED-

## NLAS5223BMNR2G
designator U?
Dual-SPDT Analog Switch; Manufacturer: ON Semiconductor; Part number NEMS: 101900819; Note: N.A.; Pad Count: 10; Component Status: Active; Part Number: NLAS5223BMNR2G; Manufacturer Part Number: NLAS5223BMNR2G; ComponentLink1URL: https://www.onsemi.com/pdf/datasheet/nlas5223b-d.pdf; ComponentLink1Description: Datasheet; ComponentLink2URL: https://www.digikey.com/en/products/detail/onsemi/NLAS5223BLMNR2G/1484453; ComponentLink2Description: Supplier link; HelpURL: https://www.onsemi.com/products/interfaces/analog-switches/nlas5223b; Footprint Doc: UFQFN-10; LatestRevisionDate: 2024-05-08; Published: 2024-05-08; Value: NLAS5223BMNR2G; Supplier 1: Digi-Key; Supplier Part Number 1: NLAS5223BMNR2GOSCT-ND; Supplier 2: N.A.; Supplier Part Number 2: N.A.; Artikkelnr Noca: N.A.; Part number IPS: N.A.; Author: getr; Component Class: Misc_ICs; Part number Norautron: N.A.; PartId: 101900819
footprint UFQFN40P140X180X55-10N
pins: 1 VCC (power), 2 NO1 (io), 3 COM1 (io), 4 IN1 (in), 5 NC1 (io), 6 GND (power), 7 NC2 (io), 8 IN2 (in), 9 COM2 (io), 10 NO2 (io)

## NLAS5223BMNR2G_1
designator U?, comment NLAS5223BMNR2G
Dual-SPDT Analog Switch; Manufacturer: ON Semiconductor; Part number NEMS: 101900819; Note: N.A.; Pad Count: 10; Component Status: Active; Part Number: NLAS5223BMNR2G; Manufacturer Part Number: NLAS5223BMNR2G; ComponentLink1URL: https://www.onsemi.com/pdf/datasheet/nlas5223b-d.pdf; ComponentLink1Description: Datasheet; ComponentLink2URL: https://www.digikey.com/en/products/detail/onsemi/NLAS5223BLMNR2G/1484453; ComponentLink2Description: Supplier link; HelpURL: https://www.onsemi.com/products/interfaces/analog-switches/nlas5223b; Footprint Doc: UFQFN-10; LatestRevisionDate: 2024-05-08; Published: 2024-05-08; Value: NLAS5223BMNR2G; Supplier 1: Digi-Key; Supplier Part Number 1: NLAS5223BMNR2GOSCT-ND; Supplier 2: N.A.; Supplier Part Number 2: N.A.; Artikkelnr Noca: N.A.; Part number IPS: N.A.; Author: getr; Component Class: Misc_ICs; Part number Norautron: N.A.; PartId: 101900819
footprint UFQFN40P140X180X55-10N
pins: 1 VCC (power), 2 NO1 (io), 3 COM1 (io), 4 IN1 (in), 5 NC1 (io), 6 GND (power), 7 NC2 (io), 8 IN2 (in), 9 COM2 (io), 10 NO2 (io)

## NN02-101_Corner
designator A?, comment NN02-101
Miniature and high-efficiency Bluetooth/Wi-Fi antenna; Part Number: NN02-101_Corner; Manufacturer: Ignion; Part number NEMS: 100700077; Component Status: Active; Pad Count: 2; Note: N.A.; PartId: 100700079; Component Class: Antennas; Author: hany; Manufacturer Part Number: NN02-101; ComponentLink1URL: https://ignion.io/files/DS_NN02-101.pdf; ComponentLink1Description: Datasheet; ComponentLink2URL: https://www.digikey.com/en/products/detail/ignion/NN02-101/14544286; ComponentLink2Description: Supplier link; HelpURL: https://ignion.io/product/nano-mxtend/; LatestRevisionDate: 2022-12-21; Published: 2022-12-21; Footprint Doc: NN02-101; Value: NN02-101; Supplier 1: Digi-Key; Supplier Part Number 1: 2115-NN02-101-ND; Supplier 2: N.A.; Supplier Part Number 2: N.A.; Artikkelnr Noca: N.A.; Part number IPS: N.A.; Part number Norautron: N.A.
footprint NN02-101_Corner
pins: 1

## NN02-101_Corner_1
designator A?, comment NN02-101
Miniature and high-efficiency Bluetooth/Wi-Fi antenna; Part Number: NN02-101_Corner; Manufacturer: Ignion; Part number NEMS: 100700077; Component Status: Active; Pad Count: 2; Note: N.A.; PartId: 100700079; Component Class: Antennas; Author: hany; Manufacturer Part Number: NN02-101; ComponentLink1URL: https://ignion.io/files/DS_NN02-101.pdf; ComponentLink1Description: Datasheet; ComponentLink2URL: https://www.digikey.com/en/products/detail/ignion/NN02-101/14544286; ComponentLink2Description: Supplier link; HelpURL: https://ignion.io/product/nano-mxtend/; LatestRevisionDate: 2022-12-21; Published: 2022-12-21; Footprint Doc: NN02-101; Value: NN02-101; Supplier 1: Digi-Key; Supplier Part Number 1: 2115-NN02-101-ND; Supplier 2: N.A.; Supplier Part Number 2: N.A.; Artikkelnr Noca: N.A.; Part number IPS: N.A.; Part number Norautron: N.A.
footprint NN02-101_Corner
pins: 1

## NN03-310-R
designator A?, comment NN03-310
Mobile IoT LTE Multi-Band Antenna; Part Number: NN03-310-R; Manufacturer: Ignion; Part number IPS: 80000001819; Part number NEMS: 100700053; Pad Count: 5; Note: N.A.; Component Status: Active; PartId: 100700053; Component Class: Antennas; Author: rsk; Manufacturer Part Number: NN03-310; ComponentLink1URL: https://ignion.io/files/DS_NN03-310.pdf; ComponentLink1Description: Datasheet; ComponentLink2URL: https://ignion.io/product/trio-mxtend/; ComponentLink2Description: Supplier link; HelpURL: https://ignion.io/files/UM_NN03-310.pdf; Footprint Doc: NN03-310; LatestRevisionDate: 2021-12-15; Published: 2018-07-09; Value: NN03-310; Supplier 1: N.A.; Supplier Part Number 1: N.A.; Supplier 2: N.A.; Supplier Part Number 2: N.A.; Artikkelnr Noca: N.A.; Part number Norautron: N.A.
footprint NN03-310_RF
footprint NN03-310_RF_ALT1 (NN03-310_RF)
pins: 1 Feed, 2 Tuning, 3 Tuning, 4 Tuning

## NN03-310-R_1
designator A?, comment NN03-310
Mobile IoT LTE Multi-Band Antenna; Part Number: NN03-310-R; Manufacturer: Ignion; Part number IPS: 80000001819; Part number NEMS: 100700053; Pad Count: 5; Note: N.A.; Component Status: Active; PartId: 100700053; Component Class: Antennas; Author: rsk; Manufacturer Part Number: NN03-310; ComponentLink1URL: https://ignion.io/files/DS_NN03-310.pdf; ComponentLink1Description: Datasheet; ComponentLink2URL: https://ignion.io/product/trio-mxtend/; ComponentLink2Description: Supplier link; HelpURL: https://ignion.io/files/UM_NN03-310.pdf; Footprint Doc: NN03-310; LatestRevisionDate: 2021-12-15; Published: 2018-07-09; Value: NN03-310; Supplier 1: N.A.; Supplier Part Number 1: N.A.; Supplier 2: N.A.; Supplier Part Number 2: N.A.; Artikkelnr Noca: N.A.; Part number Norautron: N.A.
footprint NN03-310_RF
footprint NN03-310_RF_ALT1 (NN03-310_RF)
pins: 1 Feed, 2 Tuning, 3 Tuning, 4 Tuning

## NN03-320
designator A?
Dual-Band GNSS and Wi-Fi/BluetoothAntenna; Manufacturer: Ignion; Part number NEMS: 100700066; Pad Count: 4; Note: N.A.; Component Status: Active; Part Number: NN03-320; Component Class: Antennas; Author: rubr; Manufacturer Part Number: NN03-320; ComponentLink1URL: https://ignion.io/files/DS_NN03-320.pdf; ComponentLink1Description: Datasheet; ComponentLink2URL: https://ignion.io/product/duo-mxtend/; ComponentLink2Description: Supplier link; HelpURL: https://ignion.io/files/UM_NN03-320.pdf; Footprint Doc: NN03-320; LatestRevisionDate: 2021-12-10; Published: 2023-01-31; Value: NN03-320; Supplier 1: Digi-Key; Supplier Part Number 1: 2115-NN03-320CT-ND; Supplier 2: Mouser; Supplier Part Number 2: 128-NN03-320; Artikkelnr Noca: N.A.; Part number IPS: N.A.; Part number Norautron: N.A.; PartId: 100700066
footprint NN03-320
pins: 1 NC hidden, 2 GND hidden, 3 Feed2 hidden, 4 Feed1
3 alternate drawings of the same symbol

## NN03-320_1
designator A?, comment NN03-320
Dual-Band GNSS and Wi-Fi/BluetoothAntenna; Manufacturer: Ignion; Part number NEMS: 100700066; Pad Count: 4; Note: N.A.; Component Status: Active; Part Number: NN03-320; Component Class: Antennas; Author: rubr; Manufacturer Part Number: NN03-320; ComponentLink1URL: https://ignion.io/files/DS_NN03-320.pdf; ComponentLink1Description: Datasheet; ComponentLink2URL: https://ignion.io/product/duo-mxtend/; ComponentLink2Description: Supplier link; HelpURL: https://ignion.io/files/UM_NN03-320.pdf; Footprint Doc: NN03-320; LatestRevisionDate: 2021-12-10; Published: 2023-01-31; Value: NN03-320; Supplier 1: Digi-Key; Supplier Part Number 1: 2115-NN03-320CT-ND; Supplier 2: Mouser; Supplier Part Number 2: 128-NN03-320; Artikkelnr Noca: N.A.; Part number IPS: N.A.; Part number Norautron: N.A.; PartId: 100700066
footprint NN03-320
pins: 1 NC hidden, 2 GND hidden, 3 Feed2 hidden, 4 Feed1
3 alternate drawings of the same symbol

## Nordic Logo lying
designator LOGO?, comment Nordic Logo  (value not drawn)  (no BOM)
Nordic logo lying; Manufacturer: N.A.; Part number NEMS: 101100001; Component Status: Active; Pad Count: 0; Part Number: Nordic Logo lying; PartId: 101100001; Component Class: Markings; Author: rsk; Manufacturer Part Number: N.A.; ComponentLink1URL: N.A.; ComponentLink1Description: Datasheet; ComponentLink2URL: N.A.; ComponentLink2Description: Supplier link; HelpURL: N.A.; LatestRevisionDate: 2017-03-20; Published: 2017-09-01; Footprint Doc: Nordic Logo; Value: Nordic Logo; Note: N.A.; Supplier 1: N.A.; Supplier Part Number 1: N.A.; Supplier 2: N.A.; Supplier Part Number 2: N.A.; Artikkelnr Noca: N.A.; Part number IPS: N.A.; Part number Norautron: N.A.
footprint NORDIC_LOGO_LYING

## Nordic Logo lying_1
designator LOGO?, comment Nordic Logo  (value not drawn)  (no BOM)
Nordic logo lying; Manufacturer: N.A.; Part number NEMS: 101100001; Component Status: Active; Pad Count: 0; Part Number: Nordic Logo lying; PartId: 101100001; Component Class: Markings; Author: rsk; Manufacturer Part Number: N.A.; ComponentLink1URL: N.A.; ComponentLink1Description: Datasheet; ComponentLink2URL: N.A.; ComponentLink2Description: Supplier link; HelpURL: N.A.; LatestRevisionDate: 2017-03-20; Published: 2017-09-01; Footprint Doc: Nordic Logo; Value: Nordic Logo; Note: N.A.; Supplier 1: N.A.; Supplier Part Number 1: N.A.; Supplier 2: N.A.; Supplier Part Number 2: N.A.; Artikkelnr Noca: N.A.; Part number IPS: N.A.; Part number Norautron: N.A.
footprint NORDIC_LOGO_LYING

## nPM1300-QEAAC0
designator U?
Li-Ion/Li-Polymer USB-C battery charger with high efficiency buck regulators, LDOs or load switches, LED drivers, TWI and VBUSOUT; Manufacturer: Nordic Semiconductor; Part number NEMS: 102000306; Component Status: Active; Pad Count: 33; Note: Production version; Artikkelnr Noca: N.A.; Part Number: nPM1300-QEAAC0; Component Class: Nordic_Devices; Author: eisk; Manufacturer Part Number: nPM1300-QEAAC0; ComponentLink1URL: N.A.; ComponentLink1Description: Datasheet; ComponentLink2URL: N.A.; ComponentLink2Description: Supplier link; HelpURL: N.A.; LatestRevisionDate: 2023-08-16; Published: 2023-08-16; Footprint Doc: QFN-32; Value: nPM1300-QEAAC0; Supplier 1: Nordic Semiconductor; Supplier Part Number 1: nPM1300-QEAAC0; Supplier 2: N.A.; Supplier Part Number 2: N.A.; Part number IPS: N.A.; Part number Norautron: N.A.; PartId: 102000306
footprint Nordic_QFN50P500X500X90-33N
pins: 1 VOUT1 (power), 2 PVSS1 (power), 3 SW1 (power), 4 PVDD (power), 5 SW2 (power), 6 PVSS2 (power), 7 GPIO0 (io), 8 GPIO1 (io), 9 GPIO2 (io), 10 GPIO3 (io), 11 GPIO4 (io), 12 VDDIO (power), 13 SDA (oc), 14 SCL (in), 15 SHPHLD (in), 16 VSET2 (in), 17 VSET1 (in), 18 NTC (in), 19 VBAT, 20 VSYS (power), 21 VBUS (power), 22 VBUSOUT (power), 23 CC1 (io), 24 CC2 (io), 25 LED0 (out), 26 LED1 (out), 27 LED2 (out), 28 LSIN1/VINLDO1 (power), 29 LSOUT1/VOUTLDO1 (power), 30 LSIN2/VINLDO2 (power), 31 LSOUT2/VOUTLDO2 (power), 32 VOUT2 (power), 33 AVSS (power)
text: nPM1300

## nPM1300-QEAAC0_1
designator U?, comment nPM1300-QEAAC0
Li-Ion/Li-Polymer USB-C battery charger with high efficiency buck regulators, LDOs or load switches, LED drivers, TWI and VBUSOUT; Manufacturer: Nordic Semiconductor; Part number NEMS: 102000306; Component Status: Active; Pad Count: 33; Note: Production version; Artikkelnr Noca: N.A.; Part Number: nPM1300-QEAAC0; Component Class: Nordic_Devices; Author: eisk; Manufacturer Part Number: nPM1300-QEAAC0; ComponentLink1URL: N.A.; ComponentLink1Description: Datasheet; ComponentLink2URL: N.A.; ComponentLink2Description: Supplier link; HelpURL: N.A.; LatestRevisionDate: 2023-08-16; Published: 2023-08-16; Footprint Doc: QFN-32; Value: nPM1300-QEAAC0; Supplier 1: Nordic Semiconductor; Supplier Part Number 1: nPM1300-QEAAC0; Supplier 2: N.A.; Supplier Part Number 2: N.A.; Part number IPS: N.A.; Part number Norautron: N.A.; PartId: 102000306
footprint Nordic_QFN50P500X500X90-33N
pins: 1 VOUT1 (power), 2 PVSS1 (power), 3 SW1 (power), 4 PVDD (power), 5 SW2 (power), 6 PVSS2 (power), 7 GPIO0 (io), 8 GPIO1 (io), 9 GPIO2 (io), 10 GPIO3 (io), 11 GPIO4 (io), 12 VDDIO (power), 13 SDA (oc), 14 SCL (in), 15 SHPHLD (in), 16 VSET2 (in), 17 VSET1 (in), 18 NTC (in), 19 VBAT, 20 VSYS (power), 21 VBUS (power), 22 VBUSOUT (power), 23 CC1 (io), 24 CC2 (io), 25 LED0 (out), 26 LED1 (out), 27 LED2 (out), 28 LSIN1/VINLDO1 (power), 29 LSOUT1/VOUTLDO1 (power), 30 LSIN2/VINLDO2 (power), 31 LSOUT2/VOUTLDO2 (power), 32 VOUT2 (power), 33 AVSS (power)
text: nPM1300

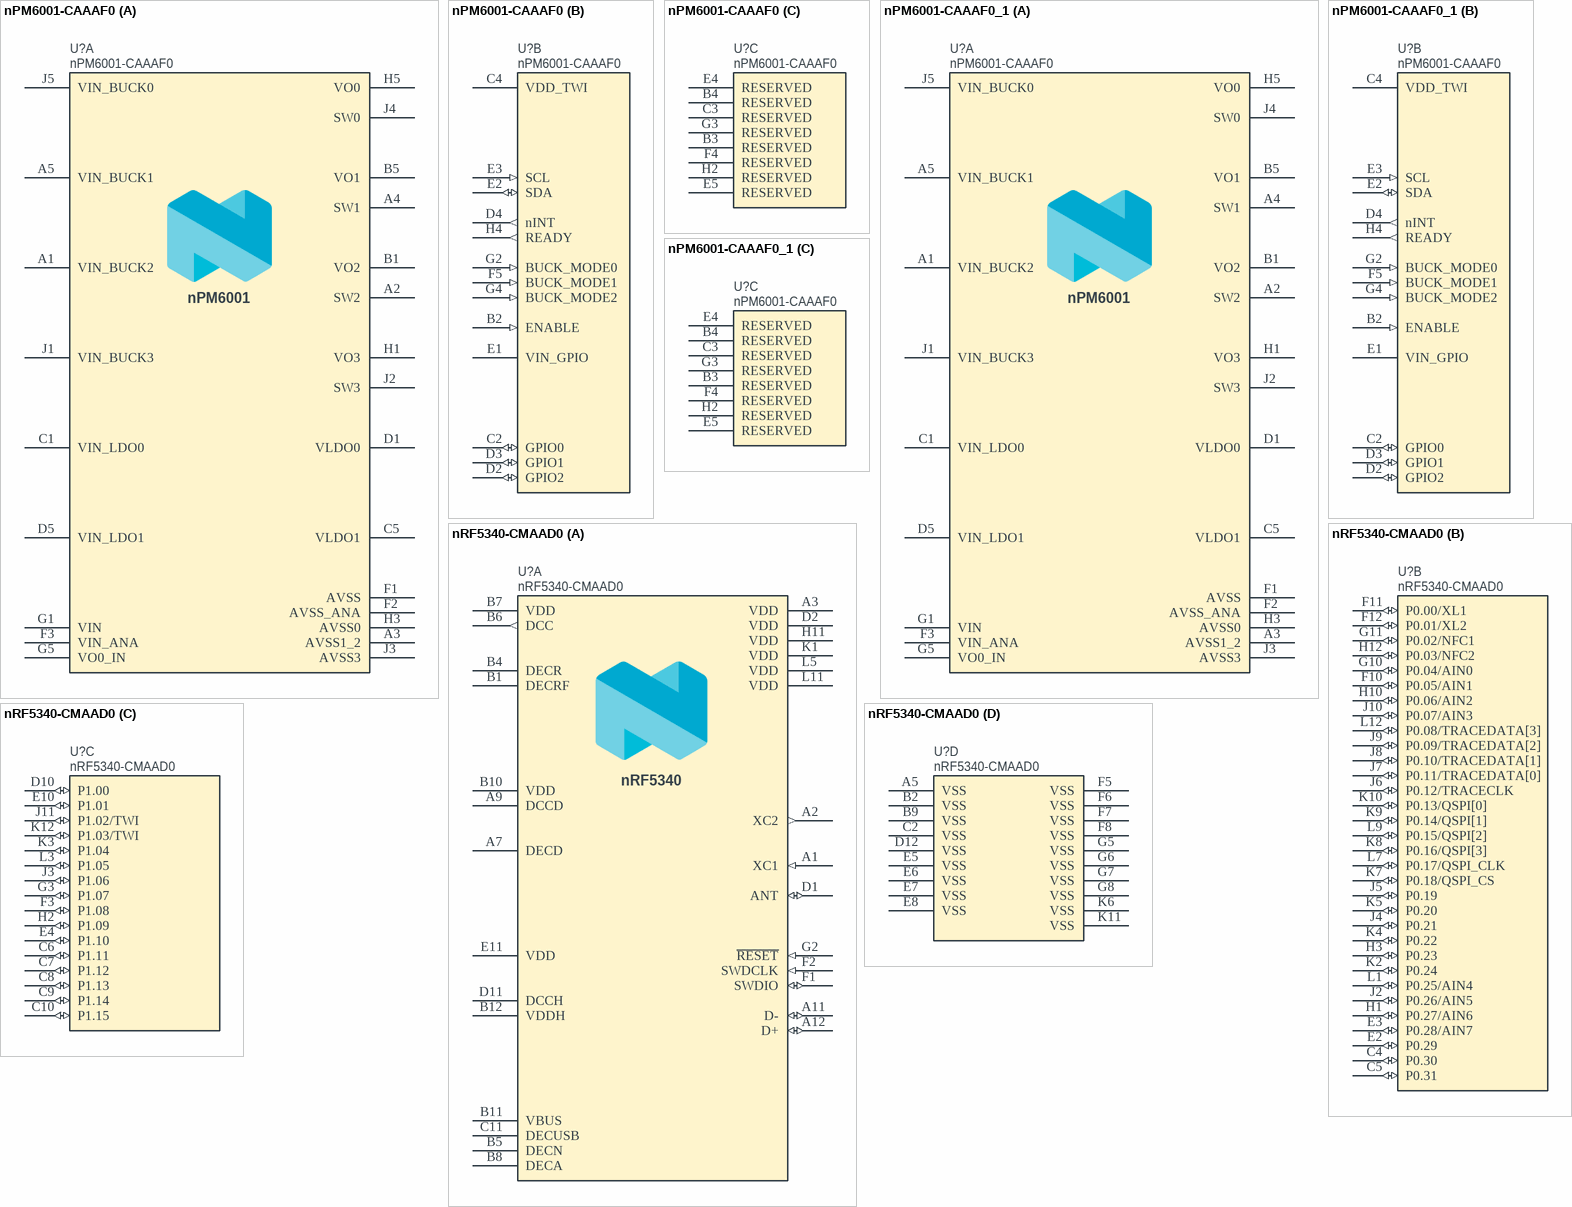
[diagram p37: symbols nPM6001-CAAAF0 to nRF5340-CMAAD0]

## nPM6001-CAAAF0
designator U?
Low-power and high efficiency PMIC; Manufacturer: Nordic Semiconductor; Part number NEMS: 102000358; Component Status: Active; Pad Count: 45; Note: N.A.; Part Number: nPM6001-CAAAF0; Component Class: Nordic_Devices; Author: getr; Manufacturer Part Number: nPM6001-CAAAF0; ComponentLink1URL: N.A.; ComponentLink1Description: Datasheet; ComponentLink2URL: N.A.; ComponentLink2Description: Supplier link; HelpURL: N.A.; LatestRevisionDate: 2024-08-09; Published: 2024-08-09; Footprint Doc: WLCSP-45; Value: nPM6001-CAAAF0; Supplier 1: Nordic Semiconductor; Supplier Part Number 1: nPM6001-CAAAF0; Supplier 2: N.A.; Supplier Part Number 2: N.A.; Artikkelnr Noca: N.A.; Part number IPS: N.A.; Part number Norautron: N.A.; PartId: 102000358
footprint BGA45C40P5X9_217X364X49
part A pins: A1 VIN_BUCK2 (power), A2 SW2 (power), A3 AVSS1_2 (power), A4 SW1 (power), A5 VIN_BUCK1 (power), B1 VO2 (power), B5 VO1 (power), C1 VIN_LDO0 (power), C5 VLDO1 (power), D1 VLDO0 (power), D5 VIN_LDO1 (power), F1 AVSS (power), F2 AVSS_ANA (power), F3 VIN_ANA (power), G1 VIN (power), G5 VO0_IN (power), H1 VO3 (power), H3 AVSS0 (power), H5 VO0 (power), J1 VIN_BUCK3 (power), J2 SW3 (power), J3 AVSS3 (power), J4 SW0 (power), J5 VIN_BUCK0 (power)
part B pins: B2 ENABLE (in), C2 GPIO0 (io), C4 VDD_TWI (power), D2 GPIO2 (io), D3 GPIO1 (io), D4 nINT (out), E1 VIN_GPIO (power), E2 SDA (io), E3 SCL (in), F5 BUCK_MODE1 (in), G2 BUCK_MODE0 (in), G4 BUCK_MODE2 (in), H4 READY (out)
part C pins: B3 RESERVED, B4 RESERVED, C3 RESERVED, E4 RESERVED, E5 RESERVED, F4 RESERVED, G3 RESERVED, H2 RESERVED
part A text: nPM6001

## nPM6001-CAAAF0_1
designator U?, comment nPM6001-CAAAF0
Low-power and high efficiency PMIC; Manufacturer: Nordic Semiconductor; Part number NEMS: 102000358; Component Status: Active; Pad Count: 45; Note: N.A.; Part Number: nPM6001-CAAAF0; Component Class: Nordic_Devices; Author: getr; Manufacturer Part Number: nPM6001-CAAAF0; ComponentLink1URL: N.A.; ComponentLink1Description: Datasheet; ComponentLink2URL: N.A.; ComponentLink2Description: Supplier link; HelpURL: N.A.; LatestRevisionDate: 2024-08-09; Published: 2024-08-09; Footprint Doc: WLCSP-45; Value: nPM6001-CAAAF0; Supplier 1: Nordic Semiconductor; Supplier Part Number 1: nPM6001-CAAAF0; Supplier 2: N.A.; Supplier Part Number 2: N.A.; Artikkelnr Noca: N.A.; Part number IPS: N.A.; Part number Norautron: N.A.; PartId: 102000358
footprint BGA45C40P5X9_217X364X49
part A pins: A1 VIN_BUCK2 (power), A2 SW2 (power), A3 AVSS1_2 (power), A4 SW1 (power), A5 VIN_BUCK1 (power), B1 VO2 (power), B5 VO1 (power), C1 VIN_LDO0 (power), C5 VLDO1 (power), D1 VLDO0 (power), D5 VIN_LDO1 (power), F1 AVSS (power), F2 AVSS_ANA (power), F3 VIN_ANA (power), G1 VIN (power), G5 VO0_IN (power), H1 VO3 (power), H3 AVSS0 (power), H5 VO0 (power), J1 VIN_BUCK3 (power), J2 SW3 (power), J3 AVSS3 (power), J4 SW0 (power), J5 VIN_BUCK0 (power)
part B pins: B2 ENABLE (in), C2 GPIO0 (io), C4 VDD_TWI (power), D2 GPIO2 (io), D3 GPIO1 (io), D4 nINT (out), E1 VIN_GPIO (power), E2 SDA (io), E3 SCL (in), F5 BUCK_MODE1 (in), G2 BUCK_MODE0 (in), G4 BUCK_MODE2 (in), H4 READY (out)
part C pins: B3 RESERVED, B4 RESERVED, C3 RESERVED, E4 RESERVED, E5 RESERVED, F4 RESERVED, G3 RESERVED, H2 RESERVED
part A text: nPM6001

## nRF5340-CMAAD0
designator U?
Multi-protocol Bluetooth Low Energy, IEEE 802.15.4, ANT and 2.4GHz proprietary system-on-chip; Manufacturer: Nordic Semiconductor; Part number NEMS: 102000337; Pad Count: 95; Note: N.A.; Component Status: Active; Part Number: nRF5340-CMAAD0; Footprint Doc: WLCSP-95; Value: nRF5340-CMAAD0; Component Class: Nordic_Devices; Author: rubr; PartId: 102000337; Manufacturer Part Number: nRF5340-CMAAD0; ComponentLink1URL: N.A.; ComponentLink1Description: Datasheet; ComponentLink2URL: N.A.; ComponentLink2Description: Supplier link; HelpURL: N.A.; LatestRevisionDate: 2024-06-07; Published: 2024-06-07; Supplier 1: Nordic Semiconductor; Supplier Part Number 1: nRF5340-CMAAD0; Supplier 2: N.A.; Supplier Part Number 2: N.A.; Artikkelnr Noca: N.A.; Part number IPS: N.A.; Part number Norautron: N.A.
footprint BGA95C35P12X11_439X399X49
part A pins: A1 XC1 (in), A2 XC2 (out), A3 VDD (power), A7 DECD (power), A9 DCCD (power), A11 D- (io), A12 D+ (io), B1 DECRF (power), B4 DECR (power), B5 DECN (power), B6 DCC (out), B7 VDD (power), B8 DECA (power), B10 VDD (power), B11 VBUS (power), B12 VDDH (power), C11 DECUSB (power), D1 ANT (io), D2 VDD (power), D11 DCCH (power), E11 VDD (power), F1 SWDIO (io), F2 SWDCLK (in), G2 ~{RESET} (in), H11 VDD (power), K1 VDD (power), L5 VDD (power), L11 VDD (power)
part B pins: C4 P0.30 (io), C5 P0.31 (io), E2 P0.29 (io), E3 P0.28/AIN7 (io), F10 P0.05/AIN1 (io), F11 P0.00/XL1 (io), F12 P0.01/XL2 (io), G10 P0.04/AIN0 (io), G11 P0.02/NFC1 (io), H1 P0.27/AIN6 (io), H3 P0.23 (io), H10 P0.06/AIN2 (io), H12 P0.03/NFC2 (io), J2 P0.26/AIN5 (io), J4 P0.21 (io), J5 P0.19 (io), J6 P0.12/TRACECLK (io), J7 P0.11/TRACEDATA[0] (io), J8 P0.10/TRACEDATA[1] (io), J9 P0.09/TRACEDATA[2] (io), J10 P0.07/AIN3 (io), K2 P0.24 (io), K4 P0.22 (io), K5 P0.20 (io), K7 P0.18/QSPI_CS (io), K8 P0.16/QSPI[3] (io), K9 P0.14/QSPI[1] (io), K10 P0.13/QSPI[0] (io), L1 P0.25/AIN4 (io), L7 P0.17/QSPI_CLK (io), L9 P0.15/QSPI[2] (io), L12 P0.08/TRACEDATA[3] (io)
part C pins: C6 P1.11 (io), C7 P1.12 (io), C8 P1.13 (io), C9 P1.14 (io), C10 P1.15 (io), D10 P1.00 (io), E4 P1.10 (io), E10 P1.01 (io), F3 P1.08 (io), G3 P1.07 (io), H2 P1.09 (io), J3 P1.06 (io), J11 P1.02/TWI (io), K3 P1.04 (io), K12 P1.03/TWI (io), L3 P1.05 (io)
part D pins: A5 VSS (power), B2 VSS (power), B9 VSS (power), C2 VSS (power), D12 VSS (power), E5 VSS (power), E6 VSS (power), E7 VSS (power), E8 VSS (power), F5 VSS (power), F6 VSS (power), F7 VSS (power), F8 VSS (power), G5 VSS (power), G6 VSS (power), G7 VSS (power), G8 VSS (power), K6 VSS (power), K11 VSS (power)
part A text: nRF5340

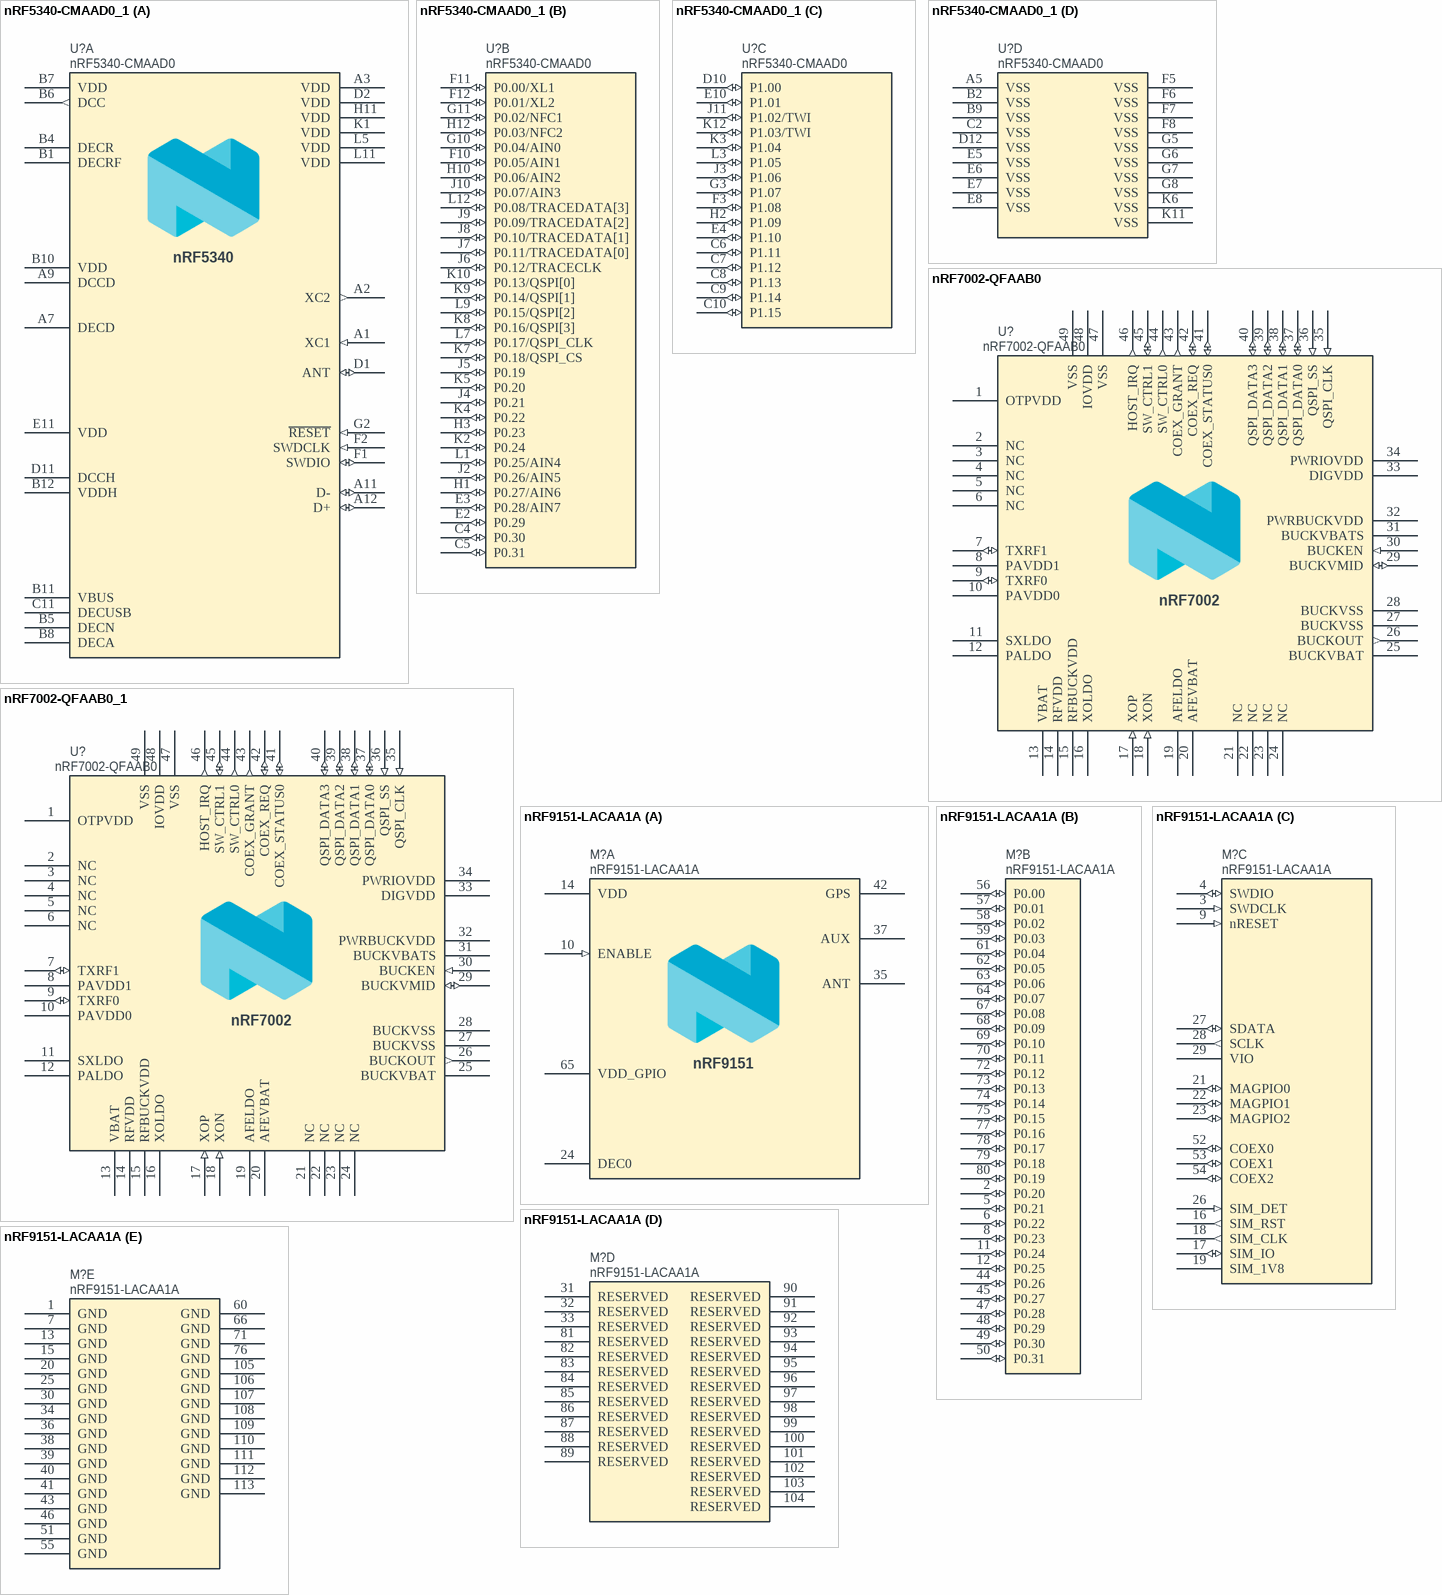
[diagram p38: symbols nRF5340-CMAAD0_1 to nRF9151-LACAA1A]

## nRF5340-CMAAD0_1
designator U?, comment nRF5340-CMAAD0
Multi-protocol Bluetooth Low Energy, IEEE 802.15.4, ANT and 2.4GHz proprietary system-on-chip; Manufacturer: Nordic Semiconductor; Part number NEMS: 102000337; Pad Count: 95; Note: N.A.; Component Status: Active; Part Number: nRF5340-CMAAD0; Footprint Doc: WLCSP-95; Value: nRF5340-CMAAD0; Component Class: Nordic_Devices; Author: rubr; PartId: 102000337; Manufacturer Part Number: nRF5340-CMAAD0; ComponentLink1URL: N.A.; ComponentLink1Description: Datasheet; ComponentLink2URL: N.A.; ComponentLink2Description: Supplier link; HelpURL: N.A.; LatestRevisionDate: 2024-06-07; Published: 2024-06-07; Supplier 1: Nordic Semiconductor; Supplier Part Number 1: nRF5340-CMAAD0; Supplier 2: N.A.; Supplier Part Number 2: N.A.; Artikkelnr Noca: N.A.; Part number IPS: N.A.; Part number Norautron: N.A.
footprint BGA95C35P12X11_439X399X49
part A pins: A1 XC1 (in), A2 XC2 (out), A3 VDD (power), A7 DECD (power), A9 DCCD (power), A11 D- (io), A12 D+ (io), B1 DECRF (power), B4 DECR (power), B5 DECN (power), B6 DCC (out), B7 VDD (power), B8 DECA (power), B10 VDD (power), B11 VBUS (power), B12 VDDH (power), C11 DECUSB (power), D1 ANT (io), D2 VDD (power), D11 DCCH (power), E11 VDD (power), F1 SWDIO (io), F2 SWDCLK (in), G2 ~{RESET} (in), H11 VDD (power), K1 VDD (power), L5 VDD (power), L11 VDD (power)
part B pins: C4 P0.30 (io), C5 P0.31 (io), E2 P0.29 (io), E3 P0.28/AIN7 (io), F10 P0.05/AIN1 (io), F11 P0.00/XL1 (io), F12 P0.01/XL2 (io), G10 P0.04/AIN0 (io), G11 P0.02/NFC1 (io), H1 P0.27/AIN6 (io), H3 P0.23 (io), H10 P0.06/AIN2 (io), H12 P0.03/NFC2 (io), J2 P0.26/AIN5 (io), J4 P0.21 (io), J5 P0.19 (io), J6 P0.12/TRACECLK (io), J7 P0.11/TRACEDATA[0] (io), J8 P0.10/TRACEDATA[1] (io), J9 P0.09/TRACEDATA[2] (io), J10 P0.07/AIN3 (io), K2 P0.24 (io), K4 P0.22 (io), K5 P0.20 (io), K7 P0.18/QSPI_CS (io), K8 P0.16/QSPI[3] (io), K9 P0.14/QSPI[1] (io), K10 P0.13/QSPI[0] (io), L1 P0.25/AIN4 (io), L7 P0.17/QSPI_CLK (io), L9 P0.15/QSPI[2] (io), L12 P0.08/TRACEDATA[3] (io)
part C pins: C6 P1.11 (io), C7 P1.12 (io), C8 P1.13 (io), C9 P1.14 (io), C10 P1.15 (io), D10 P1.00 (io), E4 P1.10 (io), E10 P1.01 (io), F3 P1.08 (io), G3 P1.07 (io), H2 P1.09 (io), J3 P1.06 (io), J11 P1.02/TWI (io), K3 P1.04 (io), K12 P1.03/TWI (io), L3 P1.05 (io)
part D pins: A5 VSS (power), B2 VSS (power), B9 VSS (power), C2 VSS (power), D12 VSS (power), E5 VSS (power), E6 VSS (power), E7 VSS (power), E8 VSS (power), F5 VSS (power), F6 VSS (power), F7 VSS (power), F8 VSS (power), G5 VSS (power), G6 VSS (power), G7 VSS (power), G8 VSS (power), K6 VSS (power), K11 VSS (power)
part A text: nRF5340